# Altium schematic symbol library MCA1206MD1002DP500.SchLib: 1 symbol
Pins are listed as number, name and electrical type; pins without a type are passive.

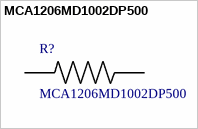
[diagram p0: symbol MCA1206MD1002DP500]

## MCA1206MD1002DP500
designator R?
RES SMD 10K OHM 0.5% 0.4W 1206; MF: Vishay; Price: None; Package: 3116 Vishay; SnapEDA_Link: https://www.snapeda.com/parts/MCA1206MD1002DP500/Vishay/view-part/?ref=snap; MP: MCA1206MD1002DP500; Availability: Unavailable; Value: *
footprint *RESC3116X65N
pins: 1, 2